# EAGLE library part CON-5X2 (library eagleLib v2)
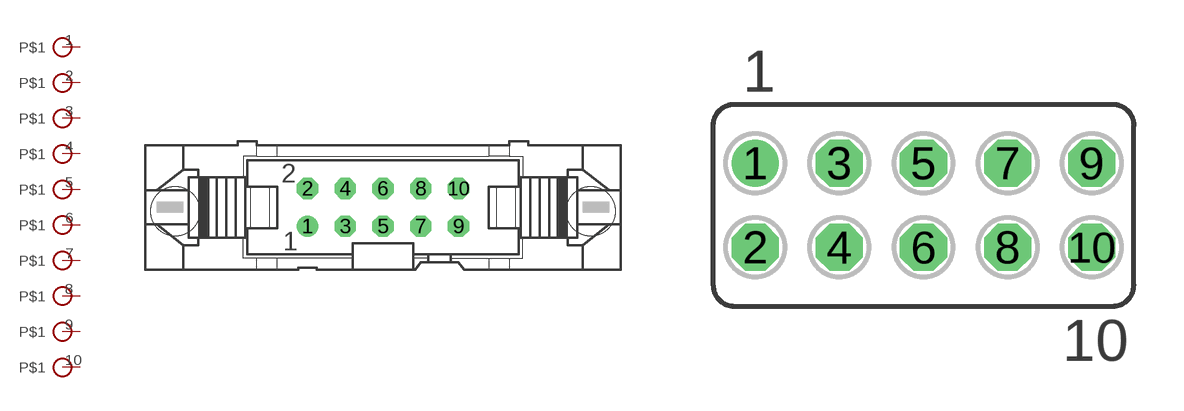
[diagram p0: symbol with the pads of 10V; footprints 10V, FE05-2]

Designator prefix -; gates G$1=PIN G$2=PIN G$3=PIN G$4=PIN G$5=PIN G$6=PIN G$7=PIN G$8=PIN G$9=PIN G$10=PIN

## CON-5X2S  [10V]
1  G$1:P$1
2  G$2:P$1
3  G$3:P$1
4  G$4:P$1
5  G$5:P$1
6  G$6:P$1
7  G$7:P$1
8  G$8:P$1
9  G$9:P$1
10  G$10:P$1

## CON-5X2Q2  [FE05-2]
Pads as for 10V

## CON-5X2R2  [MA05-2]
Pads as for 10V

## CON-5X2IDC  [ML10]
Pads as for 10V

## Footprint 10V (pad centres in mm)
CONNECTOR
drill 0.914: 1 -5.08,-1.27
drill 0.914 octagon: 2 -5.08,1.27; 3 -2.54,-1.27; 4 -2.54,1.27; 5 0,-1.27; 6 0,1.27; 7 2.54,-1.27; 8 2.54,1.27; 9 5.08,-1.27; 10 5.08,1.27
hole 3.302 at 13.97,-0.254
hole 3.302 at -13.97,-0.254

## Footprint FE05-2 (pad centres in mm)
FEMALE HEADER
drill 0.914: 1 -5.08,1.27
drill 0.914 octagon: 2 -5.08,-1.27; 3 -2.54,1.27; 4 -2.54,-1.27; 5 0,1.27; 6 0,-1.27; 7 2.54,1.27; 8 2.54,-1.27; 9 5.08,1.27; 10 5.08,-1.27

## Footprint MA05-2 (pad centres in mm)
PIN HEADER
drill 1.016 octagon: 1 -5.08,-1.27; 2 -5.08,1.27; 3 -2.54,-1.27; 4 -2.54,1.27; 5 0,-1.27; 6 0,1.27; 7 2.54,-1.27; 8 2.54,1.27; 9 5.08,-1.27; 10 5.08,1.27

## Footprint ML10 (pad centres in mm)
HARTING
drill 0.914 octagon: 1 -5.08,-1.27; 2 -5.08,1.27; 3 -2.54,-1.27; 4 -2.54,1.27; 5 0,-1.27; 6 0,1.27; 7 2.54,-1.27; 8 2.54,1.27; 9 5.08,-1.27; 10 5.08,1.27